# EAGLE library part 750312504 (library balancer)
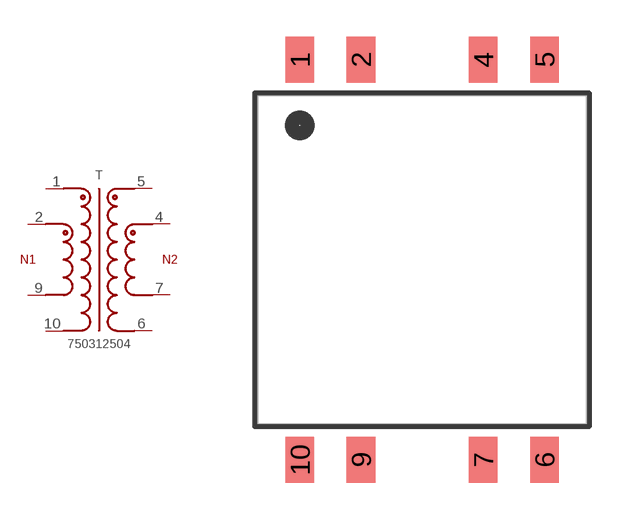
[diagram p0: symbol with the pads of WE-FLYLT_EP13_2381; footprint WE-FLYLT_EP13_2381]

Designator prefix T

## 750312504  [WE-FLYLT_EP13_2381]
1  1  pas
2  2  pas
4  4  pas
5  5  pas
6  6  pas
7  7  pas
9  9  pas
10  10  pas

## Footprint WE-FLYLT_EP13_2381 (pad centres in mm)
smd 1.17 x 1.88: 1 -5,8.18; 2 -2.5,8.18; 4 2.5,8.18; 5 5,8.18; 6 5,-8.18; 7 2.5,-8.18; 9 -2.5,-8.18; 10 -5,-8.18